# EAGLE library part MPU_92/65 (library GIX)
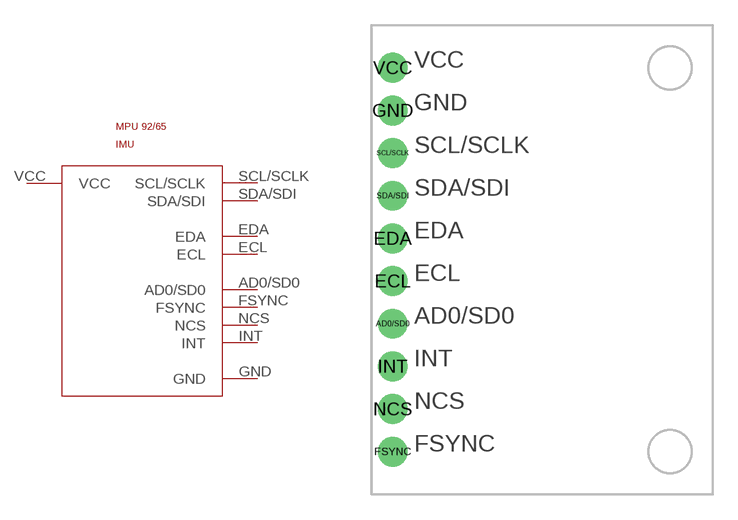
[diagram p8: symbol with the pads of MPU_92/65; footprint MPU_92/65]

Designator prefix -

## MPU_92/65  [MPU_92/65]
AD0/SD0  AD0/SD0
ECL  ECL
EDA  EDA
FSYNC  FSYNC
GND  GND
INT  INT
NCS  NCS
SCL/SCLK  SCL/SCLK
SDA/SDI  SDA/SDI
VCC  VCC

## Footprint MPU_92/65 (pad centres in mm)
drill 1.016 pad 1.778: AD0/SD0 0,-3.81; ECL 0,-1.27; EDA 0,1.27; FSYNC 0,-11.43; GND 0,8.89; INT 0,-6.35; NCS 0,-8.89; SCL/SCLK 0,6.35; SDA/SDI 0,3.81; VCC 0,11.43